# Altium schematic symbol library M24C16-RMN6TP.SchLib: 1 symbol
Pins are listed as number, name and electrical type; pins without a type are passive.

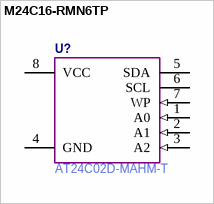
[diagram p0: symbol M24C16-RMN6TP]

## M24C16-RMN6TP
designator U?  Manufacturer Part Number: AT24C02D-MAHM-T  (hidden comment: M24C16-RMN6TP)
EEPROM PB/HALO free NiPdAu, 1.7V
pins: 1 A0 (in), 2 A1 (in), 3 A2 (in), 4 GND (power), 5 SDA (oc), 6 SCL (oc), 7 WP (in), 8 VCC (power)